# EAGLE library part ICL7107CPL (library maxim)
LED DRIVER
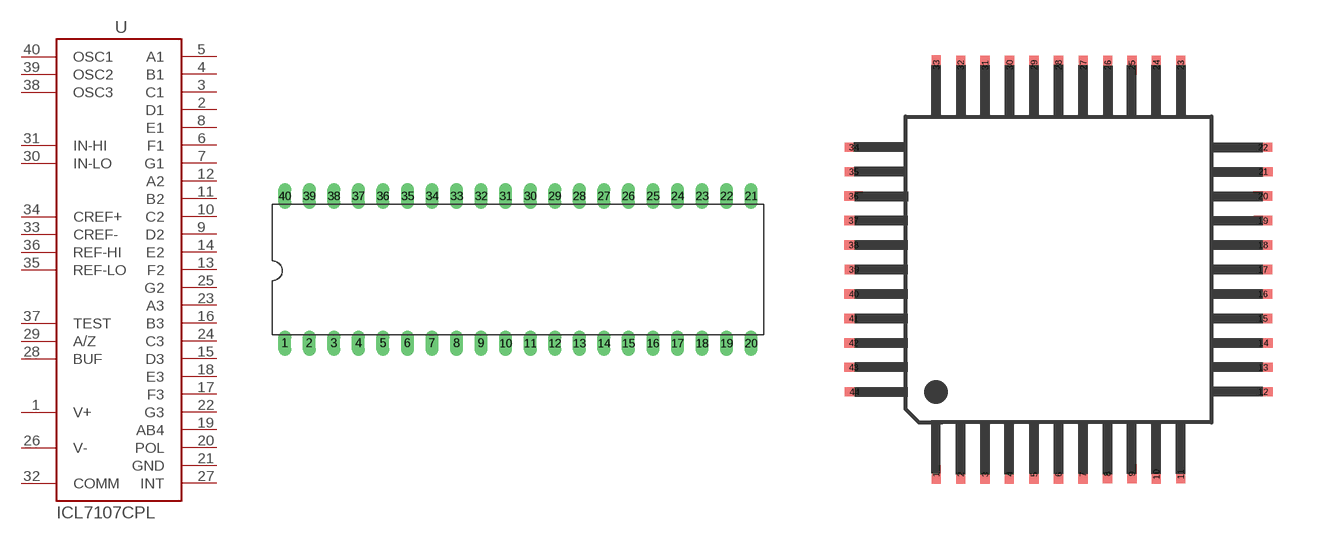
[diagram p389: symbol with the pads of DIL40; footprints DIL40, MQFP]

Designator prefix -

## ICL7107CPL1  [DIL40]
1  V+  pwr
2  D1  hiz
3  C1  hiz
4  B1  hiz
5  A1  hiz
6  F1  hiz
7  G1  hiz
8  E1  hiz
9  D2  hiz
10  C2  hiz
11  B2  hiz
12  A2  hiz
13  F2  hiz
14  E2  hiz
15  D3  hiz
16  B3  hiz
17  F3  hiz
18  E3  hiz
19  AB4  hiz
20  POL  out
21  GND  out
22  G3  hiz
23  A3  hiz
24  C3  hiz
25  G2  hiz
26  V-  pwr
27  INT  out
28  BUF  pas
29  A/Z  pas
30  IN-LO  in
31  IN-HI  in
32  COMM  pwr
33  CREF-  pas
34  CREF+  pas
35  REF-LO  in
36  REF-HI  in
37  TEST  pas
38  OSC3  pas
39  OSC2  pas
40  OSC1  pas

## ICL7107CPL  [MQFP]
3  TEST  pas
4  OSC3  pas
6  OSC2  pas
7  OSC1  pas
8  V+  pwr
9  D1  hiz
10  C1  hiz
11  B1  hiz
12  A1  hiz
13  F1  hiz
14  G1  hiz
15  E1  hiz
16  D2  hiz
17  C2  hiz
18  B2  hiz
19  A2  hiz
20  F2  hiz
21  E2  hiz
22  D3  hiz
23  B3  hiz
24  F3  hiz
25  E3  hiz
26  AB4  hiz
27  POL  out
28  GND  out
29  G3  hiz
30  A3  hiz
31  C3  hiz
32  G2  hiz
34  V-  pwr
35  INT  out
36  BUF  pas
37  A/Z  pas
38  IN-LO  in
39  IN-HI  in
40  COMM  pwr
41  CREF-  pas
42  CREF+  pas
43  REF-LO  in
44  REF-HI  in

## Footprint DIL40 (pad centres in mm)
Dual In Line Package
drill 0.813 long: 1 -24.13,-7.62; 2 -21.59,-7.62; 3 -19.05,-7.62; 4 -16.51,-7.62; 5 -13.97,-7.62; 6 -11.43,-7.62; 7 -8.89,-7.62; 8 -6.35,-7.62; 9 -3.81,-7.62; 10 -1.27,-7.62; 11 1.27,-7.62; 12 3.81,-7.62; 13 6.35,-7.62; 14 8.89,-7.62; 15 11.43,-7.62; 16 13.97,-7.62; 17 16.51,-7.62; 18 19.05,-7.62; 19 21.59,-7.62; 20 24.13,-7.62; 21 24.13,7.62; 22 21.59,7.62; 23 19.05,7.62; 24 16.51,7.62; 25 13.97,7.62; 26 11.43,7.62; 27 8.89,7.62; 28 6.35,7.62; 29 3.81,7.62; 30 1.27,7.62; 31 -1.27,7.62; 32 -3.81,7.62; 33 -6.35,7.62; 34 -8.89,7.62; 35 -11.43,7.62; 36 -13.97,7.62; 37 -16.51,7.62; 38 -19.05,7.62; 39 -21.59,7.62; 40 -24.13,7.62

## Footprint MQFP (pad centres in mm)
Metric Plastic Quad Flatpack Packages
smd 0.305 x 0.61: 1 1,-1.7; 2 1.8,-1.7; 3 2.6,-1.7; 4 3.39,-1.7; 5 4.2,-1.7; 6 5,-1.7; 7 5.8,-1.7; 8 6.6,-1.69; 9 7.4,-1.69; 10 8.2,-1.7; 11 9,-1.69; 23 9,11.69; 24 8.2,11.69; 25 7.4,11.69; 26 6.61,11.69; 27 5.81,11.69; 28 5,11.69; 29 4.2,11.69; 30 3.4,11.69; 31 2.6,11.69; 32 1.8,11.69; 33 1,11.7
smd 0.61 x 0.305: 12 11.7,1; 13 11.7,1.8; 14 11.7,2.6; 15 11.69,3.4; 16 11.69,4.2; 17 11.69,5; 18 11.69,5.8; 19 11.69,6.6; 20 11.69,7.4; 21 11.7,8.2; 22 11.69,9; 34 -1.69,9; 35 -1.69,8.2; 36 -1.7,7.4; 37 -1.7,6.6; 38 -1.7,5.8; 39 -1.69,5; 40 -1.7,4.2; 41 -1.7,3.4; 42 -1.7,2.6; 43 -1.7,1.8; 44 -1.68,1